# EAGLE library part ATMEGA328PB (library Skoba)
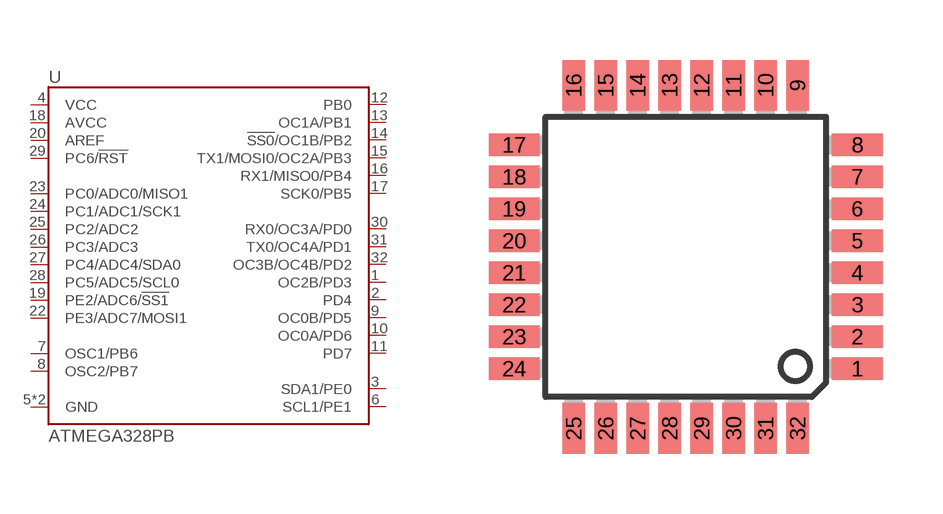
[diagram p47: symbol with the pads of TQFP32-7X7; footprint TQFP32-7X7]

Designator prefix U

## ATMEGA328PB  [TQFP32-7X7]
1  OC2B/PD3
2  PD4
3  SDA1/PE0
4  VCC  pwr
5  GND  pwr
6  SCL1/PE1
7  OSC1/PB6
8  OSC2/PB7
9  OC0B/PD5
10  OC0A/PD6
11  PD7
12  PB0
13  OC1A/PB1
14  !SS0!/OC1B/PB2
15  TX1/MOSI0/OC2A/PB3
16  RX1/MISO0/PB4
17  SCK0/PB5
18  AVCC  pwr
19  PE2/ADC6/!SS1!
20  AREF  pwr
21  GND  pwr
22  PE3/ADC7/MOSI1
23  PC0/ADC0/MISO1
24  PC1/ADC1/SCK1
25  PC2/ADC2
26  PC3/ADC3
27  PC4/ADC4/SDA0
28  PC5/ADC5/SCL0
29  PC6/!RST!
30  RX0/OC3A/PD0
31  TX0/OC4A/PD1
32  OC3B/OC4B/PD2

## Footprint TQFP32-7X7 (pad centres in mm)
smd 1.27 x 0.559: 1 4.293,-2.8; 2 4.293,-2; 3 4.293,-1.2; 4 4.293,-0.4; 5 4.293,0.4; 6 4.293,1.2; 7 4.293,2; 8 4.293,2.8; 17 -4.293,2.8; 18 -4.293,2; 19 -4.293,1.2; 20 -4.293,0.4; 21 -4.293,-0.4; 22 -4.293,-1.2; 23 -4.293,-2; 24 -4.293,-2.8
smd 0.559 x 1.27: 9 2.8,4.293; 10 2,4.293; 11 1.2,4.293; 12 0.4,4.293; 13 -0.4,4.293; 14 -1.2,4.293; 15 -2,4.293; 16 -2.8,4.293; 25 -2.8,-4.293; 26 -2,-4.293; 27 -1.2,-4.293; 28 -0.4,-4.293; 29 0.4,-4.293; 30 1.2,-4.293; 31 2,-4.293; 32 2.8,-4.293